# Altium integrated library Miscellaneous_Integrated_Library.IntLib: 34 symbols
Pins are listed as number, name and electrical type; pins without a type are passive.

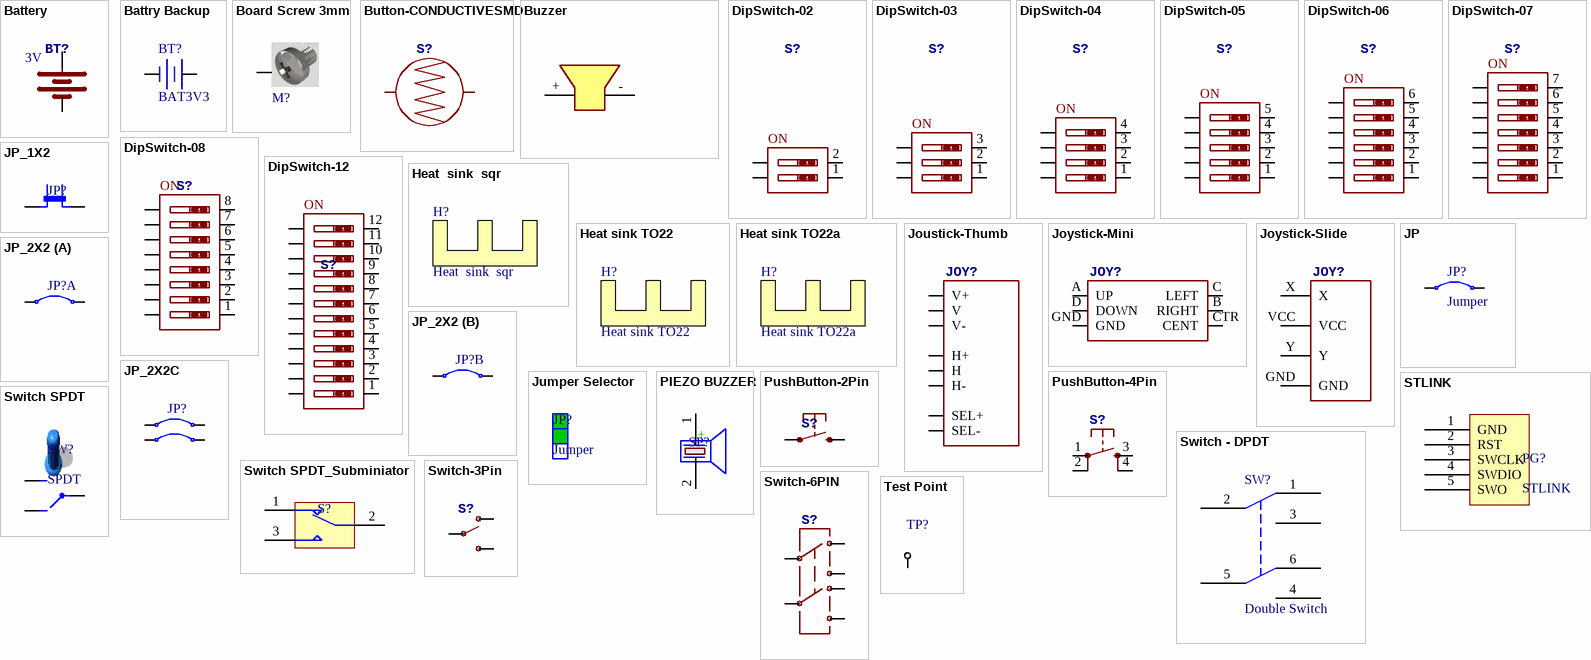
[diagram p0: symbols Battery to Test Point]

## Battery
designator BT?  value 3V
footprint _BATT-2032
pins: + (power), - (power)

## Battry Backup
designator BT?, comment BAT3V3
Battry Backup; Designer: Abbas Basereh; Data: 16-12-2016; Link: *; Part. No: *
footprint BTH2032 (COIN CELL BATTERY HOLDER 1220 12mm CR2032)
pins: 1 +, 2 -

## Board Screw 3mm
designator M?, comment Screw3mm  (value not drawn)
Board Screw With Spacer 3mm; Designer: Abbas Basereh; Data: 16-12-2016; Link: *; Part. No: *
footprint Board Screw 3mm
pins: S

## Button-CONDUCTIVESMD
designator S?
footprint _BUTTON-CONDUCTIVE
pins: 1, 2

## Buzzer
designator U?, comment Buzzer small
5-12v small buzzer (12mm)
footprint My_Buzzer
pins: + 1 (power), - 2 (power)

## DipSwitch-02
designator S?
PROD_ID: SWCH-12197; SF_SKU: COM-08034
footprint _DIP Switch x2
pins: 1, 2, 3, 4
text: ON

## DipSwitch-03
designator S?
PROD_ID: SWCH-12197; SF_SKU: COM-08034
footprint _DIP Switch x3
pins: 1, 2, 3, 4, 5, 6
text: ON

## DipSwitch-04
designator S?
PROD_ID: SWCH-12197; SF_SKU: COM-08034
footprint _DIP Switch x4
pins: 1, 2, 3, 4, 5, 6, 7, 8
text: ON

## DipSwitch-05
designator S?
PROD_ID: SWCH-12197; SF_SKU: COM-08034
footprint _DIP Switch x5
pins: 1, 2, 3, 4, 5, 6, 7, 8, 9, 10
text: ON

## DipSwitch-06
designator S?
PROD_ID: SWCH-12197; SF_SKU: COM-08034
footprint _DIP Switch x6
pins: 1, 2, 3, 4, 5, 6, 7, 8, 9, 10, 11, 12
text: ON

## DipSwitch-07
designator S?
PROD_ID: SWCH-12197; SF_SKU: COM-08034
footprint _DIP Switch x7
pins: 1, 2, 3, 4, 5, 6, 7, 8, 9, 10, 11, 12, 13, 14
text: ON

## DipSwitch-08
designator S?
PROD_ID: SWCH-12197; SF_SKU: COM-08034
footprint _DIP Switch x8
pins: 1, 2, 3, 4, 5, 6, 7, 8, 9, 10, 11, 12, 13, 14, 15, 16
text: ON

## DipSwitch-12
designator S?
PROD_ID: SWCH-12197; SF_SKU: COM-08034
footprint _DIP Switch x12
pins: 1, 2, 3, 4, 5, 6, 7, 8, 9, 10, 11, 12, 13, 14, 15, 16, 17, 18, 19, 20, 21, 22, 23, 24
text: ON

## Heat  sink  sqr
designator H?
Heat sink sqr
footprint My_Heat_sink_sqr

## Heat sink TO22
designator H?
Heat sink for TO22
footprint My_Heat_sink_TO22

## Heat sink TO22a
designator H?
Heat sink for TO22
footprint My_Heat_sink_TO22a

## Joustick-Thumb
designator JOY?
PROD_ID: COMP-09744; SF_SKU: COM-09032
footprint _JOYSTICK
pins: B1A SEL+, B2A SEL-, H1 H+, H2 H, H3 H-, V1 V+, V2 V, V3 V-

## Joystick-Mini
designator JOY?
PROD_ID: SWCH-09905; SF_SKU: COM-10063
footprint _JOYSTICK_MINI
pins: A UP, B RIGHT, C LEFT, CTR CENT, D DOWN, GND

## Joystick-Slide
designator JOY?
SF_SKU: COM-09426
footprint _JOYSTICK-PSP1000
pins: GND, VCC, X, Y

## JP
designator JP?, comment Jumper
Jumper Component; Company: SJ Libraries; Designer: Eng. Saeid Jorablo; Category: Jumpers; ComponentLink1Description: Datasheet; ComponentLink2Description: Reference; HelpURL: http://s3.picofile.com/file/7443264187/Coming_Soon_logo.gif; Mounting Technology: Surface Mount\Through-Hole; Pin Count: 2; Publisher: SJ Unlimited; Status: Unreleased
footprint J0R/10 (0 Ohm Jumper Resistor)
footprint JP254_H (Jumper Header 2.54mm Pitch, Horizontal)
footprint JP254_V (Jumper Header 2.54mm Pitch, Vertical)
footprint SJ (SMD Jumper)
footprint SJW (SMD Jumper Wide)
footprint J0508-200 (5.08 mm (200mil) Jumper wire)
footprint J0762-300 (7.62 mm (300 mil) Jumper wire)
footprint J1016-400 (10.16 mm (400 mil) Jumper wire)
footprint J1270-500 (12.7 mm (500 mil) Jumper wire)
footprint J1524-600 (15.24 mm (600 mil) Jumper wire)
footprint J2032-800 (20.32 mm (800 mil) Jumper wire)
footprint J2540-1000 (25.4 mm (1000 mil) Jumper wire)
footprint J3048-1200 (30.48 mm (1200 mil) Jumper wire)
pins: 1, 2
4 alternate drawings of the same symbol

## JP_1X2
designator JP?, comment Jumper  (value not drawn)
1 X 02 Jumper; Company: SJ Libraries; Designer: Eng. Saeid Jorablo; Category: Jumpers; ComponentLink1Description: Datasheet; ComponentLink2Description: Reference; HelpURL: http://s3.picofile.com/file/7443264187/Coming_Soon_logo.gif; Mounting Technology: Surface Mount\Through-Hole; Pin Count: 2; Publisher: SJ Unlimited; Status: Unreleased
footprint JP254_H (Jumper Header 2.54mm Pitch, Horizontal)
footprint JP254_V (Jumper Header 2.54mm Pitch, Vertical)
pins: 1, 2
2 alternate drawings of the same symbol

## JP_2X2
designator JP?, comment Jumper  (value not drawn)
2 X 2 Jumper; Company: SJ Libraries; Designer: Eng. Saeid Jorablo; Category: Jumpers; ComponentLink1Description: Datasheet; ComponentLink2Description: Reference; HelpURL: http://s3.picofile.com/file/7443264187/Coming_Soon_logo.gif; Mounting Technology: Surface Mount\Through-Hole; Pin Count: 4; Publisher: SJ Unlimited; Status: Unreleased
footprint MHDR2X02-254P - E (Male Header 2X02 with 2.54 mm Pitch)
footprint MHDR2X02-200P - E (Male Header 2X02 with 2.00 mm Pitch)
part A pins: 1, 2
part B pins: 3, 4
2 alternate drawings of the same symbol

## JP_2X2C
designator JP?, comment Jumper  (value not drawn)
2 X 2 Jumper; Company: SJ Libraries; Designer: Eng. Saeid Jorablo; Category: Jumpers; ComponentLink1Description: Datasheet; ComponentLink2Description: Reference; HelpURL: http://s3.picofile.com/file/7443264187/Coming_Soon_logo.gif; Mounting Technology: Surface Mount\Through-Hole; Pin Count: 4; Publisher: SJ Unlimited; Status: Unreleased
footprint MHDR2X02-254P - E (Male Header 2X02 with 2.54 mm Pitch)
footprint MHDR2X02-200P - E (Male Header 2X02 with 2.00 mm Pitch)
pins: 1, 2, 3, 4
1 alternate drawing of the same symbol

## Jumper Selector
designator JP?, comment Jumper
Jumper Selector
footprint jumper selector
footprint Jumper Selector SMD
pins: 1, 2, 3

## PIEZO BUZZER
designator SP?
PIEZO BUZZER ACTIVE; Designer: Abbas Basereh; Comment_1: SPEAKER AND BEEP; Design Date: 1395/11/14; ComponentLink2Description: Reference; PackageDescription: THD; Publisher: Abbas Basereh; Mounting Technology: THD; Pin Count: 2; Status: Unreleased
footprint BUZZER 7.62mm DC (BUZZER 12mm DIA , 7.62mm pitch DESIGNER ABBAS BASEREH)
pins: 1 +, 2 -

## PushButton-2Pin
designator S?
PROD_ID: SWCH-11967; SF_SKU: COM-12993
footprint _TACTILE_SWITCH_SMD_RIGHT_ANGLE
footprint _TACTILE_SWITCH_PTH_RIGHT_ANGLE_KIT
footprint _TACTILE_SWITCH_SMD_6.0X3.5MM
pins: 1, 2

## PushButton-4Pin
designator S?
PROD_ID: SWCH-13065
footprint _TACTILE_SWITCH_PTH_6.0MM
footprint _TACTILE_SWITCH_PTH_12MM
footprint _TACTILE_SWITCH_SMD_4.5MM
footprint _TACTILE_SWITCH_SMD_4.6X2.8MM
footprint _TACTILE_SWITCH_SMD_5.2MM
footprint _TACTILE_SWITCH_SMD_12MM
pins: 1, 2, 3, 4

## STLINK
designator PG?
footprint _STLINK
pins: 1 GND, 2 RST, 3 SWCLK, 4 SWDIO, 5 SWO

## Switch - DPDT
designator SW?, comment Double Switch
DPDT Switch
footprint Switch - DPDT
pins: 1, 2, 3, 4, 5, 6

## Switch SPDT
designator SW?, comment SPDT
SPDT Switch; Designer: Saeid Jorablo; Company: ControTEK; Adding Date: 1387/01/10
footprint SW SPDT- Horizontal
footprint Switch SPDT - 500x270x1100x185 mil
footprint Switch SPDT - 500x270x1100x185 mil - Right Angle
pins: 1, 2, 3

## Switch SPDT_Subminiator
designator S?  (value not drawn)
Subminiator SPDT Switch; Company: E.P.I.L; Design date: 2011/11/02
footprint SPDT Subminiator (Subminiator SPDT switch)
pins: 1, 2, 3

## Switch-3Pin
designator S?  (value not drawn)
PROD_ID: SWCH-08261; SF_SKU: COM-00102
footprint _Switch-3Pin
pins: 1 O, 2 P, 3 S

## Switch-6PIN
designator S?  (value not drawn)
PROD_ID: SWCH-10554
footprint _Switch-6PIN
pins: 10 1, 11 4, 20 3, 21 6, C@1 2, C@2 5

## Test Point
designator TP?  (value not drawn)
footprint Test Point
footprint Test Point Small
footprint Test_Pin
pins: 1 T